# EAGLE library part BM08B-SRSS-TB_LF__SN_ (library BM08B-SRSS-TB_LF__SN_)
Connector: wire-board; socket; male; 1A; 50V; PIN: 8; SMT; 1mm; 1x8 Source: Datasheet <https://www.jst.com/wp-content/uploads/2021/03/eSR_SZ-new.pdf>
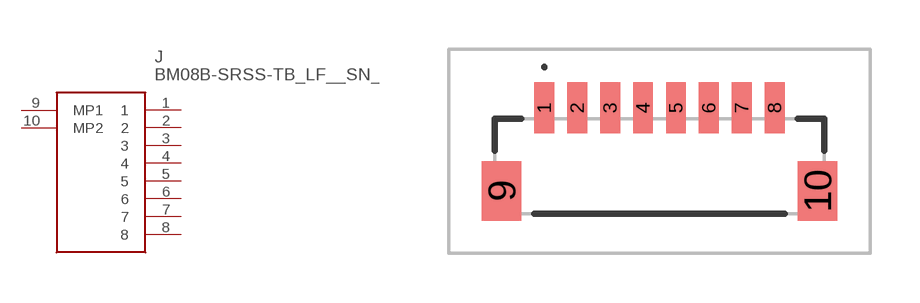
[diagram p0: symbol with the pads of BM08BSRSSTBLFSN; footprint BM08BSRSSTBLFSN]

Designator prefix J

## BM08B-SRSS-TB_LF__SN_ (Arrow_Part_Number: BM08B-SRSS-TB(LF)(SN); Arrow_Price-Stock: https://www.arrow.com/en/products/bm08b-srss-tb-lf-sn/jst-manufacturing.html?utm_currency=USD&region=europe; Description: Connector: wire-board; socket; male; 1A; 50V; PIN: 8; SMT; 1mm; 1x8; Height: 4.25mm; Manufacturer_Name: JST (JAPAN SOLDERLESS TERMINALS); Manufacturer_Part_Number: BM08B-SRSS-TB(LF)(SN); Mouser_Part_Number: N/A; Mouser_Price-Stock: https://www.mouser.co.uk/ProductDetail/JST-Commercial/BM08B-SRSS-TBLFSN?qs=QpmGXVUTftFK%2FkBkMXJr9A%3D%3D)  [BM08BSRSSTBLFSN]
1  1
2  2
3  3
4  4
5  5
6  6
7  7
8  8
9  MP1
10  MP2

## Footprint BM08BSRSSTBLFSN (pad centres in mm)
BM08B-SRSS-TB(LF)(SN)-2
smd 0.6 x 1.55: 1 -3.5,1.612; 2 -2.5,1.612; 3 -1.5,1.612; 4 -0.5,1.612; 5 0.5,1.612; 6 1.5,1.612; 7 2.5,1.612; 8 3.5,1.612
smd 1.2 x 1.8: 9 -4.8,-0.913; 10 4.8,-0.913